# EAGLE library part A4955 (library A4955)
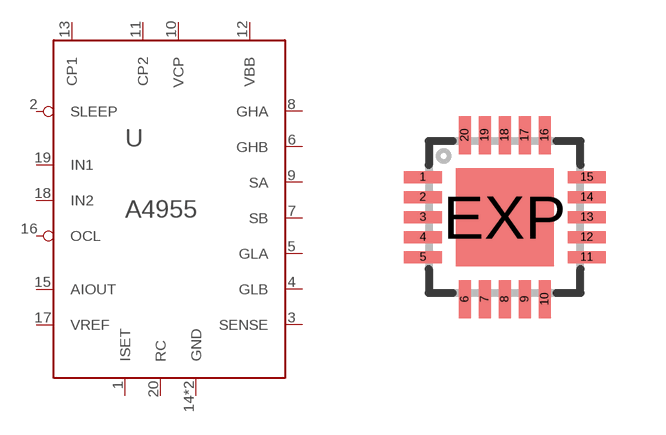
[diagram p0: symbol with the pads of QFN20; footprint QFN20]

Designator prefix -

## A4955  [QFN20]
1  ISET  in
2  SLEEP  in
3  SENSE  in
4  GLB  out
5  GLA  out
6  GHB  out
7  SB  in
8  GHA  out
9  SA  in
10  VCP
11  CP2
12  VBB  pwr
13  CP1
14  GND  pwr
15  AIOUT  out
16  OCL
17  VREF  in
18  IN2  in
19  IN1  in
20  RC
EXP  GND  pwr

## Footprint QFN20 (pad centres in mm)
ES Package, 20-Contact QFN with Exposed Thermal Pad Data sheet <http://www.allegromicro.com/en/Products/Part_Numbers/3906/3906.pdf>
smd 0.95 x 0.3: 1 -2.05,1; 2 -2.05,0.5; 3 -2.05,0; 4 -2.05,-0.5; 5 -2.05,-1; 11 2.05,-1; 12 2.05,-0.5; 13 2.05,0; 14 2.05,0.5; 15 2.05,1
smd 0.3 x 0.95: 6 -1,-2.05; 7 -0.5,-2.05; 8 0,-2.05; 9 0.5,-2.05; 10 1,-2.05; 16 1,2.05; 17 0.5,2.05; 18 0,2.05; 19 -0.5,2.05; 20 -1,2.05
smd 2.45 x 2.45: EXP 0,0